# EAGLE library part XC7A100T-1FGG484C (library XC7A100T-1FGG484C)
FPGA Artix-7 Family 101440 Cells 28nm Technology 1V 484-Pin BGA Check availability <https://pricing.snapeda.com/parts/XC7A100T-1FGG484C/Xilinx%20Inc./view-part?ref=eda>
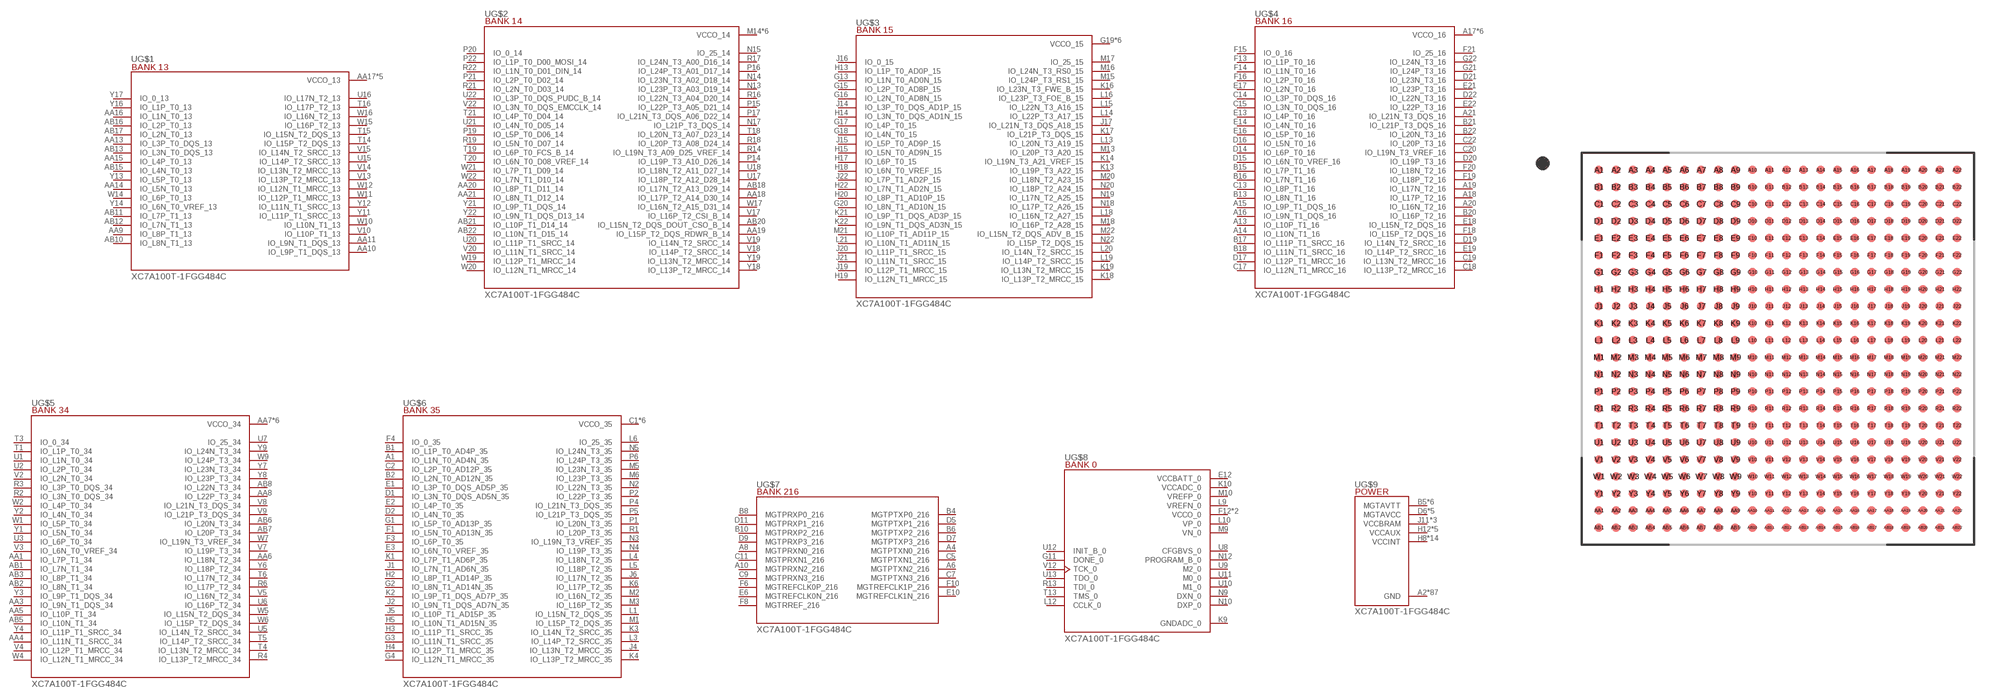
[diagram p0: symbol with the pads of BGA484C100P22X22_2300X2300X260N; footprint BGA484C100P22X22_2300X2300X260N]

Designator prefix U; gates G$1=XC7A100T-1FGG484C_SECTION1 G$2=XC7A100T-1FGG484C_SECTION2 G$3=XC7A100T-1FGG484C_SECTION3 G$4=XC7A100T-1FGG484C_SECTION4 G$5=XC7A100T-1FGG484C_SECTION5 G$6=XC7A100T-1FGG484C_SECTION6 G$7=XC7A100T-1FGG484C_SECTION7 G$8=XC7A100T-1FGG484C_SECTION8 G$9=XC7A100T-1FGG484C_SECTION9

## XC7A100T-1FGG484C (Availability: In Stock; Check_prices: https://www.snapeda.com/parts/XC7A100T-1FGG484C/Xilinx+Inc./view-part/?ref=eda; Description: Artix-7 Field Programmable Gate Array (FPGA) IC 285 4976640 101440 484-BBGA; MF: Xilinx Inc.; MP: XC7A100T-1FGG484C; Package: FBGA-484 Xilinx; Price: None; SnapEDA_Link: https://www.snapeda.com/parts/XC7A100T-1FGG484C/Xilinx+Inc./view-part/?ref=snap)  [BGA484C100P22X22_2300X2300X260N]
A1  G$6:IO_L1N_T0_AD4N_35
A2  G$9:GND  pwr
A3  G$9:GND  pwr
A4  G$7:MGTPTXN0_216
A5  G$9:GND  pwr
A6  G$7:MGTPTXN2_216
A7  G$9:GND  pwr
A8  G$7:MGTPRXN0_216
A9  G$9:GND  pwr
A10  G$7:MGTPRXN2_216
A11  G$9:GND  pwr
A12  G$9:GND  pwr
A13  G$4:IO_L10P_T1_16
A14  G$4:IO_L10N_T1_16
A15  G$4:IO_L9P_T1_DQS_16
A16  G$4:IO_L9N_T1_DQS_16
A17  G$4:VCCO_16  pwr
A18  G$4:IO_L17P_T2_16
A19  G$4:IO_L17N_T2_16
A20  G$4:IO_L16N_T2_16
A21  G$4:IO_L21N_T3_DQS_16
A22  G$9:GND  pwr
AA1  G$5:IO_L7P_T1_34
AA2  G$9:GND  pwr
AA3  G$5:IO_L9N_T1_DQS_34
AA4  G$5:IO_L11N_T1_SRCC_34
AA5  G$5:IO_L10P_T1_34
AA6  G$5:IO_L18N_T2_34
AA7  G$5:VCCO_34  pwr
AA8  G$5:IO_L22P_T3_34
AA9  G$1:IO_L8P_T1_13
AA10  G$1:IO_L9P_T1_DQS_13
AA11  G$1:IO_L9N_T1_DQS_13
AA12  G$9:GND  pwr
AA13  G$1:IO_L3P_T0_DQS_13
AA14  G$1:IO_L5N_T0_13
AA15  G$1:IO_L4P_T0_13
AA16  G$1:IO_L1N_T0_13
AA17  G$1:VCCO_13  pwr
AA18  G$2:IO_L17P_T2_A14_D30_14
AA19  G$2:IO_L15P_T2_DQS_RDWR_B_14
AA20  G$2:IO_L8P_T1_D11_14
AA21  G$2:IO_L8N_T1_D12_14
AA22  G$9:GND  pwr
AB1  G$5:IO_L7N_T1_34
AB2  G$5:IO_L8N_T1_34
AB3  G$5:IO_L8P_T1_34
AB4  G$5:VCCO_34  pwr
AB5  G$5:IO_L10N_T1_34
AB6  G$5:IO_L20N_T3_34
AB7  G$5:IO_L20P_T3_34
AB8  G$5:IO_L22N_T3_34
AB9  G$9:GND  pwr
AB10  G$1:IO_L8N_T1_13
AB11  G$1:IO_L7P_T1_13
AB12  G$1:IO_L7N_T1_13
AB13  G$1:IO_L3N_T0_DQS_13
AB14  G$1:VCCO_13  pwr
AB15  G$1:IO_L4N_T0_13
AB16  G$1:IO_L2P_T0_13
AB17  G$1:IO_L2N_T0_13
AB18  G$2:IO_L17N_T2_A13_D29_14
AB19  G$9:GND  pwr
AB20  G$2:IO_L15N_T2_DQS_DOUT_CSO_B_14
AB21  G$2:IO_L10P_T1_D14_14
AB22  G$2:IO_L10N_T1_D15_14
B1  G$6:IO_L1P_T0_AD4P_35
B2  G$6:IO_L2N_T0_AD12N_35
B3  G$9:GND  pwr
B4  G$7:MGTPTXP0_216
B5  G$9:MGTAVTT  pwr
B6  G$7:MGTPTXP2_216
B7  G$9:MGTAVTT  pwr
B8  G$7:MGTPRXP0_216
B9  G$9:MGTAVTT  pwr
B10  G$7:MGTPRXP2_216
B11  G$9:MGTAVTT  pwr
B12  G$9:GND  pwr
B13  G$4:IO_L8N_T1_16
B14  G$4:VCCO_16  pwr
B15  G$4:IO_L7P_T1_16
B16  G$4:IO_L7N_T1_16
B17  G$4:IO_L11P_T1_SRCC_16
B18  G$4:IO_L11N_T1_SRCC_16
B19  G$9:GND  pwr
B20  G$4:IO_L16P_T2_16
B21  G$4:IO_L21P_T3_DQS_16
B22  G$4:IO_L20N_T3_16
C1  G$6:VCCO_35
C2  G$6:IO_L2P_T0_AD12P_35
C3  G$9:GND  pwr
C4  G$9:MGTAVTT  pwr
C5  G$7:MGTPTXN1_216
C6  G$9:GND  pwr
C7  G$7:MGTPTXN3_216
C8  G$9:MGTAVTT  pwr
C9  G$7:MGTPRXN3_216
C10  G$9:GND  pwr
C11  G$7:MGTPRXN1_216
C12  G$9:GND  pwr
C13  G$4:IO_L8P_T1_16
C14  G$4:IO_L3P_T0_DQS_16
C15  G$4:IO_L3N_T0_DQS_16
C16  G$9:GND  pwr
C17  G$4:IO_L12N_T1_MRCC_16
C18  G$4:IO_L13P_T2_MRCC_16
C19  G$4:IO_L13N_T2_MRCC_16
C20  G$4:IO_L19N_T3_VREF_16
C21  G$4:VCCO_16  pwr
C22  G$4:IO_L20P_T3_16
D1  G$6:IO_L3N_T0_DQS_AD5N_35
D2  G$6:IO_L4N_T0_35
D3  G$9:GND  pwr
D4  G$9:GND  pwr
D5  G$7:MGTPTXP1_216
D6  G$9:MGTAVCC  pwr
D7  G$7:MGTPTXP3_216
D8  G$9:GND  pwr
D9  G$7:MGTPRXP3_216
D10  G$9:MGTAVCC  pwr
D11  G$7:MGTPRXP1_216
D12  G$9:GND  pwr
D13  G$9:GND  pwr
D14  G$4:IO_L6P_T0_16
D15  G$4:IO_L6N_T0_VREF_16
D16  G$4:IO_L5N_T0_16
D17  G$4:IO_L12P_T1_MRCC_16
D18  G$4:VCCO_16  pwr
D19  G$4:IO_L14N_T2_SRCC_16
D20  G$4:IO_L19P_T3_16
D21  G$4:IO_L23N_T3_16
D22  G$4:IO_L22N_T3_16
E1  G$6:IO_L3P_T0_DQS_AD5P_35
E2  G$6:IO_L4P_T0_35
E3  G$6:IO_L6N_T0_VREF_35
E4  G$9:GND  pwr
E5  G$9:GND  pwr
E6  G$7:MGTREFCLK0N_216
E7  G$9:GND  pwr
E8  G$9:MGTAVCC  pwr
E9  G$9:GND  pwr
E10  G$7:MGTREFCLK1N_216
E11  G$9:GND  pwr
E12  G$8:VCCBATT_0  pwr
E13  G$4:IO_L4P_T0_16
E14  G$4:IO_L4N_T0_16
E15  G$4:VCCO_16  pwr
E16  G$4:IO_L5P_T0_16
E17  G$4:IO_L2N_T0_16
E18  G$4:IO_L15N_T2_DQS_16
E19  G$4:IO_L14P_T2_SRCC_16
E20  G$9:GND  pwr
E21  G$4:IO_L23P_T3_16
E22  G$4:IO_L22P_T3_16
F1  G$6:IO_L5N_T0_AD13N_35
F2  G$6:VCCO_35
F3  G$6:IO_L6P_T0_35
F4  G$6:IO_0_35
F5  G$9:GND  pwr
F6  G$7:MGTREFCLK0P_216
F7  G$9:MGTAVCC  pwr
F8  G$7:MGTRREF_216
F9  G$9:MGTAVCC  pwr
F10  G$7:MGTREFCLK1P_216
F11  G$9:GND  pwr
F12  G$8:VCCO_0  pwr
F13  G$4:IO_L1P_T0_16
F14  G$4:IO_L1N_T0_16
F15  G$4:IO_0_16
F16  G$4:IO_L2P_T0_16
F17  G$9:GND  pwr
F18  G$4:IO_L15P_T2_DQS_16
F19  G$4:IO_L18P_T2_16
F20  G$4:IO_L18N_T2_16
F21  G$4:IO_25_16
F22  G$4:VCCO_16  pwr
G1  G$6:IO_L5P_T0_AD13P_35
G2  G$6:IO_L8N_T1_AD14N_35
G3  G$6:IO_L11N_T1_SRCC_35
G4  G$6:IO_L12N_T1_MRCC_35
G5  G$9:GND  pwr
G6  G$9:GND  pwr
G7  G$9:GND  pwr
G8  G$9:GND  pwr
G9  G$9:GND  pwr
G10  G$9:GND  pwr
G11  G$8:DONE_0
G12  G$9:GND  pwr
G13  G$3:IO_L1N_T0_AD0N_15
G14  G$9:GND  pwr
G15  G$3:IO_L2P_T0_AD8P_15
G16  G$3:IO_L2N_T0_AD8N_15
G17  G$3:IO_L4P_T0_15
G18  G$3:IO_L4N_T0_15
G19  G$3:VCCO_15  pwr
G20  G$3:IO_L8N_T1_AD10N_15
G21  G$4:IO_L24P_T3_16
G22  G$4:IO_L24N_T3_16
H1  G$9:GND  pwr
H2  G$6:IO_L8P_T1_AD14P_35
H3  G$6:IO_L11P_T1_SRCC_35
H4  G$6:IO_L12P_T1_MRCC_35
H5  G$6:IO_L10N_T1_AD15N_35
H6  G$6:VCCO_35
H7  G$9:GND  pwr
H8  G$9:VCCINT  pwr
H9  G$9:GND  pwr
H10  G$9:VCCINT  pwr
H11  G$9:GND  pwr
H12  G$9:VCCAUX  pwr
H13  G$3:IO_L1P_T0_AD0P_15
H14  G$3:IO_L3N_T0_DQS_AD1N_15
H15  G$3:IO_L5N_T0_AD9N_15
H16  G$3:VCCO_15  pwr
H17  G$3:IO_L6P_T0_15
H18  G$3:IO_L6N_T0_VREF_15
H19  G$3:IO_L12N_T1_MRCC_15
H20  G$3:IO_L8P_T1_AD10P_15
H21  G$9:GND  pwr
H22  G$3:IO_L7N_T1_AD2N_15
J1  G$6:IO_L7N_T1_AD6N_35
J2  G$6:IO_L9N_T1_DQS_AD7N_35
J3  G$6:VCCO_35
J4  G$6:IO_L13N_T2_MRCC_35
J5  G$6:IO_L10P_T1_AD15P_35
J6  G$6:IO_L17N_T2_35
J7  G$9:VCCINT  pwr
J8  G$9:GND  pwr
J9  G$9:VCCINT  pwr
J10  G$9:GND  pwr
J11  G$9:VCCBRAM  pwr
J12  G$9:GND  pwr
J13  G$3:VCCO_15  pwr
J14  G$3:IO_L3P_T0_DQS_AD1P_15
J15  G$3:IO_L5P_T0_AD9P_15
J16  G$3:IO_0_15
J17  G$3:IO_L21N_T3_DQS_A18_15
J18  G$9:GND  pwr
J19  G$3:IO_L12P_T1_MRCC_15
J20  G$3:IO_L11P_T1_SRCC_15
J21  G$3:IO_L11N_T1_SRCC_15
J22  G$3:IO_L7P_T1_AD2P_15
K1  G$6:IO_L7P_T1_AD6P_35
K2  G$6:IO_L9P_T1_DQS_AD7P_35
K3  G$6:IO_L14N_T2_SRCC_35
K4  G$6:IO_L13P_T2_MRCC_35
K5  G$9:GND  pwr
K6  G$6:IO_L17P_T2_35
K7  G$9:GND  pwr
K8  G$9:VCCINT  pwr
K9  G$8:GNDADC_0  pwr
K10  G$8:VCCADC_0  pwr
K11  G$9:GND  pwr
K12  G$9:VCCAUX  pwr
K13  G$3:IO_L19P_T3_A22_15
K14  G$3:IO_L19N_T3_A21_VREF_15
K15  G$9:GND  pwr
K16  G$3:IO_L23N_T3_FWE_B_15
K17  G$3:IO_L21P_T3_DQS_15
K18  G$3:IO_L13P_T2_MRCC_15
K19  G$3:IO_L13N_T2_MRCC_15
K20  G$3:VCCO_15  pwr
K21  G$3:IO_L9P_T1_DQS_AD3P_15
K22  G$3:IO_L9N_T1_DQS_AD3N_15
L1  G$6:IO_L15N_T2_DQS_35
L2  G$9:GND  pwr
L3  G$6:IO_L14P_T2_SRCC_35
L4  G$6:IO_L18N_T2_35
L5  G$6:IO_L18P_T2_35
L6  G$6:IO_25_35
L7  G$9:VCCINT  pwr
L8  G$9:GND  pwr
L9  G$8:VREFN_0  pwr
L10  G$8:VP_0  pwr
L11  G$9:VCCBRAM  pwr
L12  G$8:CCLK_0
L13  G$3:IO_L20N_T3_A19_15
L14  G$3:IO_L22P_T3_A17_15
L15  G$3:IO_L22N_T3_A16_15
L16  G$3:IO_L23P_T3_FOE_B_15
L17  G$3:VCCO_15  pwr
L18  G$3:IO_L16N_T2_A27_15
L19  G$3:IO_L14P_T2_SRCC_15
L20  G$3:IO_L14N_T2_SRCC_15
L21  G$3:IO_L10N_T1_AD11N_15
L22  G$9:GND  pwr
M1  G$6:IO_L15P_T2_DQS_35
M2  G$6:IO_L16N_T2_35
M3  G$6:IO_L16P_T2_35
M4  G$6:VCCO_35
M5  G$6:IO_L23N_T3_35
M6  G$6:IO_L23P_T3_35
M7  G$9:GND  pwr
M8  G$9:VCCINT  pwr
M9  G$8:VN_0  pwr
M10  G$8:VREFP_0  pwr
M11  G$9:GND  pwr
M12  G$9:VCCAUX  pwr
M13  G$3:IO_L20P_T3_A20_15
M14  G$2:VCCO_14  pwr
M15  G$3:IO_L24P_T3_RS1_15
M16  G$3:IO_L24N_T3_RS0_15
M17  G$3:IO_25_15
M18  G$3:IO_L16P_T2_A28_15
M19  G$9:GND  pwr
M20  G$3:IO_L18N_T2_A23_15
M21  G$3:IO_L10P_T1_AD11P_15
M22  G$3:IO_L15N_T2_DQS_ADV_B_15
N1  G$6:VCCO_35
N2  G$6:IO_L22N_T3_35
N3  G$6:IO_L19N_T3_VREF_35
N4  G$6:IO_L19P_T3_35
N5  G$6:IO_L24N_T3_35
N6  G$9:GND  pwr
N7  G$9:VCCINT  pwr
N8  G$9:GND  pwr
N9  G$8:DXN_0
N10  G$8:DXP_0
N11  G$9:VCCBRAM  pwr
N12  G$8:PROGRAM_B_0
N13  G$2:IO_L23P_T3_A03_D19_14
N14  G$2:IO_L23N_T3_A02_D18_14
N15  G$2:IO_25_14
N16  G$9:GND  pwr
N17  G$2:IO_L21P_T3_DQS_14
N18  G$3:IO_L17P_T2_A26_15
N19  G$3:IO_L17N_T2_A25_15
N20  G$3:IO_L18P_T2_A24_15
N21  G$3:VCCO_15  pwr
N22  G$3:IO_L15P_T2_DQS_15
P1  G$6:IO_L20N_T3_35
P2  G$6:IO_L22P_T3_35
P3  G$9:GND  pwr
P4  G$6:IO_L21N_T3_DQS_35
P5  G$6:IO_L21P_T3_DQS_35
P6  G$6:IO_L24P_T3_35
P7  G$9:GND  pwr
P8  G$9:VCCINT  pwr
P9  G$9:GND  pwr
P10  G$9:VCCINT  pwr
P11  G$9:GND  pwr
P12  G$9:VCCAUX  pwr
P13  G$9:GND  pwr
P14  G$2:IO_L19P_T3_A10_D26_14
P15  G$2:IO_L22P_T3_A05_D21_14
P16  G$2:IO_L24P_T3_A01_D17_14
P17  G$2:IO_L21N_T3_DQS_A06_D22_14
P18  G$2:VCCO_14  pwr
P19  G$2:IO_L5P_T0_D06_14
P20  G$2:IO_0_14
P21  G$2:IO_L2P_T0_D02_14
P22  G$2:IO_L1P_T0_D00_MOSI_14
R1  G$6:IO_L20P_T3_35
R2  G$5:IO_L3N_T0_DQS_34
R3  G$5:IO_L3P_T0_DQS_34
R4  G$5:IO_L13P_T2_MRCC_34
R5  G$5:VCCO_34  pwr
R6  G$5:IO_L17P_T2_34
R7  G$9:VCCINT  pwr
R8  G$9:GND  pwr
R9  G$9:VCCINT  pwr
R10  G$9:GND  pwr
R11  G$9:VCCAUX  pwr
R12  G$9:GND  pwr
R13  G$8:TDI_0  in
R14  G$2:IO_L19N_T3_A09_D25_VREF_14
R15  G$2:VCCO_14  pwr
R16  G$2:IO_L22N_T3_A04_D20_14
R17  G$2:IO_L24N_T3_A00_D16_14
R18  G$2:IO_L20P_T3_A08_D24_14
R19  G$2:IO_L5N_T0_D07_14
R20  G$9:GND  pwr
R21  G$2:IO_L2N_T0_D03_14
R22  G$2:IO_L1N_T0_D01_DIN_14
T1  G$5:IO_L1P_T0_34
T2  G$5:VCCO_34  pwr
T3  G$5:IO_0_34
T4  G$5:IO_L13N_T2_MRCC_34
T5  G$5:IO_L14P_T2_SRCC_34
T6  G$5:IO_L17N_T2_34
T7  G$9:GND  pwr
T8  G$9:VCCINT  pwr
T9  G$9:GND  pwr
T10  G$9:VCCINT  pwr
T11  G$9:GND  pwr
T12  G$8:VCCO_0  pwr
T13  G$8:TMS_0  in
T14  G$1:IO_L15P_T2_DQS_13
T15  G$1:IO_L15N_T2_DQS_13
T16  G$1:IO_L17P_T2_13
T17  G$9:GND  pwr
T18  G$2:IO_L20N_T3_A07_D23_14
T19  G$2:IO_L6P_T0_FCS_B_14
T20  G$2:IO_L6N_T0_D08_VREF_14
T21  G$2:IO_L4P_T0_D04_14
T22  G$2:VCCO_14  pwr
U1  G$5:IO_L1N_T0_34
U2  G$5:IO_L2P_T0_34
U3  G$5:IO_L6P_T0_34
U4  G$9:GND  pwr
U5  G$5:IO_L14N_T2_SRCC_34
U6  G$5:IO_L16P_T2_34
U7  G$5:IO_25_34
U8  G$8:CFGBVS_0
U9  G$8:M2_0
U10  G$8:M1_0
U11  G$8:M0_0
U12  G$8:INIT_B_0  in
U13  G$8:TDO_0  out
U14  G$9:GND  pwr
U15  G$1:IO_L14P_T2_SRCC_13
U16  G$1:IO_L17N_T2_13
U17  G$2:IO_L18P_T2_A12_D28_14
U18  G$2:IO_L18N_T2_A11_D27_14
U19  G$2:VCCO_14  pwr
U20  G$2:IO_L11P_T1_SRCC_14
U21  G$2:IO_L4N_T0_D05_14
U22  G$2:IO_L3P_T0_DQS_PUDC_B_14
V1  G$9:GND  pwr
V2  G$5:IO_L2N_T0_34
V3  G$5:IO_L6N_T0_VREF_34
V4  G$5:IO_L12P_T1_MRCC_34
V5  G$5:IO_L16N_T2_34
V6  G$5:VCCO_34  pwr
V7  G$5:IO_L19P_T3_34
V8  G$5:IO_L21N_T3_DQS_34
V9  G$5:IO_L21P_T3_DQS_34
V10  G$1:IO_L10P_T1_13
V11  G$9:GND  pwr
V12  G$8:TCK_0  in
V13  G$1:IO_L13P_T2_MRCC_13
V14  G$1:IO_L13N_T2_MRCC_13
V15  G$1:IO_L14N_T2_SRCC_13
V16  G$1:VCCO_13  pwr
V17  G$2:IO_L16P_T2_CSI_B_14
V18  G$2:IO_L14P_T2_SRCC_14
V19  G$2:IO_L14N_T2_SRCC_14
V20  G$2:IO_L11N_T1_SRCC_14
V21  G$9:GND  pwr
V22  G$2:IO_L3N_T0_DQS_EMCCLK_14
W1  G$5:IO_L5P_T0_34
W2  G$5:IO_L4P_T0_34
W3  G$5:VCCO_34  pwr
W4  G$5:IO_L12N_T1_MRCC_34
W5  G$5:IO_L15N_T2_DQS_34
W6  G$5:IO_L15P_T2_DQS_34
W7  G$5:IO_L19N_T3_VREF_34
W8  G$9:GND  pwr
W9  G$5:IO_L24P_T3_34
W10  G$1:IO_L10N_T1_13
W11  G$1:IO_L12P_T1_MRCC_13
W12  G$1:IO_L12N_T1_MRCC_13
W13  G$1:VCCO_13  pwr
W14  G$1:IO_L6P_T0_13
W15  G$1:IO_L16P_T2_13
W16  G$1:IO_L16N_T2_13
W17  G$2:IO_L16N_T2_A15_D31_14
W18  G$9:GND  pwr
W19  G$2:IO_L12P_T1_MRCC_14
W20  G$2:IO_L12N_T1_MRCC_14
W21  G$2:IO_L7P_T1_D09_14
W22  G$2:IO_L7N_T1_D10_14
Y1  G$5:IO_L5N_T0_34
Y2  G$5:IO_L4N_T0_34
Y3  G$5:IO_L9P_T1_DQS_34
Y4  G$5:IO_L11P_T1_SRCC_34
Y5  G$9:GND  pwr
Y6  G$5:IO_L18P_T2_34
Y7  G$5:IO_L23N_T3_34
Y8  G$5:IO_L23P_T3_34
Y9  G$5:IO_L24N_T3_34
Y10  G$1:VCCO_13  pwr
Y11  G$1:IO_L11P_T1_SRCC_13
Y12  G$1:IO_L11N_T1_SRCC_13
Y13  G$1:IO_L5P_T0_13
Y14  G$1:IO_L6N_T0_VREF_13
Y15  G$9:GND  pwr
Y16  G$1:IO_L1P_T0_13
Y17  G$1:IO_0_13
Y18  G$2:IO_L13P_T2_MRCC_14
Y19  G$2:IO_L13N_T2_MRCC_14
Y20  G$2:VCCO_14  pwr
Y21  G$2:IO_L9P_T1_DQS_14
Y22  G$2:IO_L9N_T1_DQS_D13_14

## Footprint BGA484C100P22X22_2300X2300X260N (pad centres in mm)
smd 0.5 x 0.5: A1 -10.5,10.5; A2 -9.5,10.5; A3 -8.5,10.5; A4 -7.5,10.5; A5 -6.5,10.5; A6 -5.5,10.5; A7 -4.5,10.5; A8 -3.5,10.5; A9 -2.5,10.5; A10 -1.5,10.5; A11 -0.5,10.5; A12 0.5,10.5; A13 1.5,10.5; A14 2.5,10.5; A15 3.5,10.5; A16 4.5,10.5; A17 5.5,10.5; A18 6.5,10.5; A19 7.5,10.5; A20 8.5,10.5; A21 9.5,10.5; A22 10.5,10.5; AA1 -10.5,-9.5; AA2 -9.5,-9.5; AA3 -8.5,-9.5; AA4 -7.5,-9.5; AA5 -6.5,-9.5; AA6 -5.5,-9.5; AA7 -4.5,-9.5; AA8 -3.5,-9.5; AA9 -2.5,-9.5; AA10 -1.5,-9.5; AA11 -0.5,-9.5; AA12 0.5,-9.5; AA13 1.5,-9.5; AA14 2.5,-9.5; AA15 3.5,-9.5; AA16 4.5,-9.5; AA17 5.5,-9.5; AA18 6.5,-9.5; AA19 7.5,-9.5; AA20 8.5,-9.5; AA21 9.5,-9.5; AA22 10.5,-9.5; AB1 -10.5,-10.5; AB2 -9.5,-10.5; AB3 -8.5,-10.5; AB4 -7.5,-10.5; AB5 -6.5,-10.5; AB6 -5.5,-10.5; AB7 -4.5,-10.5; AB8 -3.5,-10.5; AB9 -2.5,-10.5; AB10 -1.5,-10.5; AB11 -0.5,-10.5; AB12 0.5,-10.5; AB13 1.5,-10.5; AB14 2.5,-10.5; AB15 3.5,-10.5; AB16 4.5,-10.5; AB17 5.5,-10.5; AB18 6.5,-10.5; AB19 7.5,-10.5; AB20 8.5,-10.5; AB21 9.5,-10.5; AB22 10.5,-10.5; B1 -10.5,9.5; B2 -9.5,9.5; B3 -8.5,9.5; B4 -7.5,9.5; B5 -6.5,9.5; B6 -5.5,9.5; B7 -4.5,9.5; B8 -3.5,9.5; B9 -2.5,9.5; B10 -1.5,9.5; B11 -0.5,9.5; B12 0.5,9.5; B13 1.5,9.5; B14 2.5,9.5; B15 3.5,9.5; B16 4.5,9.5; B17 5.5,9.5; B18 6.5,9.5; B19 7.5,9.5; B20 8.5,9.5; B21 9.5,9.5; B22 10.5,9.5; C1 -10.5,8.5; C2 -9.5,8.5; C3 -8.5,8.5; C4 -7.5,8.5; C5 -6.5,8.5; C6 -5.5,8.5; C7 -4.5,8.5; C8 -3.5,8.5; C9 -2.5,8.5; C10 -1.5,8.5; C11 -0.5,8.5; C12 0.5,8.5; C13 1.5,8.5; C14 2.5,8.5; C15 3.5,8.5; C16 4.5,8.5; C17 5.5,8.5; C18 6.5,8.5; C19 7.5,8.5; C20 8.5,8.5; C21 9.5,8.5; C22 10.5,8.5; D1 -10.5,7.5; D2 -9.5,7.5; D3 -8.5,7.5; D4 -7.5,7.5; D5 -6.5,7.5; D6 -5.5,7.5; D7 -4.5,7.5; D8 -3.5,7.5; D9 -2.5,7.5; D10 -1.5,7.5; D11 -0.5,7.5; D12 0.5,7.5; D13 1.5,7.5; D14 2.5,7.5; D15 3.5,7.5; D16 4.5,7.5; D17 5.5,7.5; D18 6.5,7.5; D19 7.5,7.5; D20 8.5,7.5; D21 9.5,7.5; D22 10.5,7.5; E1 -10.5,6.5; E2 -9.5,6.5; E3 -8.5,6.5; E4 -7.5,6.5; E5 -6.5,6.5; E6 -5.5,6.5; E7 -4.5,6.5; E8 -3.5,6.5; E9 -2.5,6.5; E10 -1.5,6.5; E11 -0.5,6.5; E12 0.5,6.5; E13 1.5,6.5; E14 2.5,6.5; E15 3.5,6.5; E16 4.5,6.5; E17 5.5,6.5; E18 6.5,6.5; E19 7.5,6.5; E20 8.5,6.5; E21 9.5,6.5; E22 10.5,6.5; F1 -10.5,5.5; F2 -9.5,5.5; F3 -8.5,5.5; F4 -7.5,5.5; F5 -6.5,5.5; F6 -5.5,5.5; F7 -4.5,5.5; F8 -3.5,5.5; F9 -2.5,5.5; F10 -1.5,5.5; F11 -0.5,5.5; F12 0.5,5.5; F13 1.5,5.5; F14 2.5,5.5; F15 3.5,5.5; F16 4.5,5.5; F17 5.5,5.5; F18 6.5,5.5; F19 7.5,5.5; F20 8.5,5.5; F21 9.5,5.5; F22 10.5,5.5; G1 -10.5,4.5; G2 -9.5,4.5; G3 -8.5,4.5; G4 -7.5,4.5; G5 -6.5,4.5; G6 -5.5,4.5; G7 -4.5,4.5; G8 -3.5,4.5; G9 -2.5,4.5; G10 -1.5,4.5; G11 -0.5,4.5; G12 0.5,4.5; G13 1.5,4.5; G14 2.5,4.5; G15 3.5,4.5; G16 4.5,4.5; G17 5.5,4.5; G18 6.5,4.5; G19 7.5,4.5; G20 8.5,4.5; G21 9.5,4.5; G22 10.5,4.5; H1 -10.5,3.5; H2 -9.5,3.5; H3 -8.5,3.5; H4 -7.5,3.5; H5 -6.5,3.5; H6 -5.5,3.5; H7 -4.5,3.5; H8 -3.5,3.5; H9 -2.5,3.5; H10 -1.5,3.5; H11 -0.5,3.5; H12 0.5,3.5; H13 1.5,3.5; H14 2.5,3.5; H15 3.5,3.5; H16 4.5,3.5; H17 5.5,3.5; H18 6.5,3.5; H19 7.5,3.5; H20 8.5,3.5; H21 9.5,3.5; H22 10.5,3.5; J1 -10.5,2.5; J2 -9.5,2.5; J3 -8.5,2.5; J4 -7.5,2.5; J5 -6.5,2.5; J6 -5.5,2.5; J7 -4.5,2.5; J8 -3.5,2.5; J9 -2.5,2.5; J10 -1.5,2.5; J11 -0.5,2.5; J12 0.5,2.5; J13 1.5,2.5; J14 2.5,2.5; J15 3.5,2.5; J16 4.5,2.5; J17 5.5,2.5; J18 6.5,2.5; J19 7.5,2.5; J20 8.5,2.5; J21 9.5,2.5; J22 10.5,2.5; K1 -10.5,1.5; K2 -9.5,1.5; K3 -8.5,1.5; K4 -7.5,1.5; K5 -6.5,1.5; K6 -5.5,1.5; K7 -4.5,1.5; K8 -3.5,1.5; K9 -2.5,1.5; K10 -1.5,1.5; K11 -0.5,1.5; K12 0.5,1.5; K13 1.5,1.5; K14 2.5,1.5; K15 3.5,1.5; K16 4.5,1.5; K17 5.5,1.5; K18 6.5,1.5; K19 7.5,1.5; K20 8.5,1.5; K21 9.5,1.5; K22 10.5,1.5; L1 -10.5,0.5; L2 -9.5,0.5; L3 -8.5,0.5; L4 -7.5,0.5; L5 -6.5,0.5; L6 -5.5,0.5; L7 -4.5,0.5; L8 -3.5,0.5; L9 -2.5,0.5; L10 -1.5,0.5; L11 -0.5,0.5; L12 0.5,0.5; L13 1.5,0.5; L14 2.5,0.5; L15 3.5,0.5; L16 4.5,0.5; L17 5.5,0.5; L18 6.5,0.5; L19 7.5,0.5; L20 8.5,0.5; L21 9.5,0.5; L22 10.5,0.5; M1 -10.5,-0.5; M2 -9.5,-0.5; M3 -8.5,-0.5; M4 -7.5,-0.5; M5 -6.5,-0.5; M6 -5.5,-0.5; M7 -4.5,-0.5; M8 -3.5,-0.5; M9 -2.5,-0.5; M10 -1.5,-0.5; M11 -0.5,-0.5; M12 0.5,-0.5; M13 1.5,-0.5; M14 2.5,-0.5; M15 3.5,-0.5; M16 4.5,-0.5; M17 5.5,-0.5; M18 6.5,-0.5; M19 7.5,-0.5; M20 8.5,-0.5; M21 9.5,-0.5; M22 10.5,-0.5; N1 -10.5,-1.5; N2 -9.5,-1.5; N3 -8.5,-1.5; N4 -7.5,-1.5; N5 -6.5,-1.5; N6 -5.5,-1.5; N7 -4.5,-1.5; N8 -3.5,-1.5; N9 -2.5,-1.5; N10 -1.5,-1.5; N11 -0.5,-1.5; N12 0.5,-1.5; N13 1.5,-1.5; N14 2.5,-1.5; N15 3.5,-1.5; N16 4.5,-1.5; N17 5.5,-1.5; N18 6.5,-1.5; N19 7.5,-1.5; N20 8.5,-1.5; N21 9.5,-1.5; N22 10.5,-1.5; P1 -10.5,-2.5; P2 -9.5,-2.5; P3 -8.5,-2.5; P4 -7.5,-2.5; P5 -6.5,-2.5; P6 -5.5,-2.5; P7 -4.5,-2.5; P8 -3.5,-2.5; P9 -2.5,-2.5; P10 -1.5,-2.5; P11 -0.5,-2.5; P12 0.5,-2.5; P13 1.5,-2.5; P14 2.5,-2.5; P15 3.5,-2.5; P16 4.5,-2.5; P17 5.5,-2.5; P18 6.5,-2.5; P19 7.5,-2.5; P20 8.5,-2.5; P21 9.5,-2.5; P22 10.5,-2.5; R1 -10.5,-3.5; R2 -9.5,-3.5; R3 -8.5,-3.5; R4 -7.5,-3.5; R5 -6.5,-3.5; R6 -5.5,-3.5; R7 -4.5,-3.5; R8 -3.5,-3.5; R9 -2.5,-3.5; R10 -1.5,-3.5; R11 -0.5,-3.5; R12 0.5,-3.5; R13 1.5,-3.5; R14 2.5,-3.5; R15 3.5,-3.5; R16 4.5,-3.5; R17 5.5,-3.5; R18 6.5,-3.5; R19 7.5,-3.5; R20 8.5,-3.5; R21 9.5,-3.5; R22 10.5,-3.5; T1 -10.5,-4.5; T2 -9.5,-4.5; T3 -8.5,-4.5; T4 -7.5,-4.5; T5 -6.5,-4.5; T6 -5.5,-4.5; T7 -4.5,-4.5; T8 -3.5,-4.5; T9 -2.5,-4.5; T10 -1.5,-4.5; T11 -0.5,-4.5; T12 0.5,-4.5; T13 1.5,-4.5; T14 2.5,-4.5; T15 3.5,-4.5; T16 4.5,-4.5; T17 5.5,-4.5; T18 6.5,-4.5; T19 7.5,-4.5; T20 8.5,-4.5; T21 9.5,-4.5; T22 10.5,-4.5; U1 -10.5,-5.5; U2 -9.5,-5.5; U3 -8.5,-5.5; U4 -7.5,-5.5; U5 -6.5,-5.5; U6 -5.5,-5.5; U7 -4.5,-5.5; U8 -3.5,-5.5; U9 -2.5,-5.5; U10 -1.5,-5.5; U11 -0.5,-5.5; U12 0.5,-5.5; U13 1.5,-5.5; U14 2.5,-5.5; U15 3.5,-5.5; U16 4.5,-5.5; U17 5.5,-5.5; U18 6.5,-5.5; U19 7.5,-5.5; U20 8.5,-5.5; U21 9.5,-5.5; U22 10.5,-5.5; V1 -10.5,-6.5; V2 -9.5,-6.5; V3 -8.5,-6.5; V4 -7.5,-6.5; V5 -6.5,-6.5; V6 -5.5,-6.5; V7 -4.5,-6.5; V8 -3.5,-6.5; V9 -2.5,-6.5; V10 -1.5,-6.5; V11 -0.5,-6.5; V12 0.5,-6.5; V13 1.5,-6.5; V14 2.5,-6.5; V15 3.5,-6.5; V16 4.5,-6.5; V17 5.5,-6.5; V18 6.5,-6.5; V19 7.5,-6.5; V20 8.5,-6.5; V21 9.5,-6.5; V22 10.5,-6.5; W1 -10.5,-7.5; W2 -9.5,-7.5; W3 -8.5,-7.5; W4 -7.5,-7.5; W5 -6.5,-7.5; W6 -5.5,-7.5; W7 -4.5,-7.5; W8 -3.5,-7.5; W9 -2.5,-7.5; W10 -1.5,-7.5; W11 -0.5,-7.5; W12 0.5,-7.5; W13 1.5,-7.5; W14 2.5,-7.5; W15 3.5,-7.5; W16 4.5,-7.5; W17 5.5,-7.5; W18 6.5,-7.5; W19 7.5,-7.5; W20 8.5,-7.5; W21 9.5,-7.5; W22 10.5,-7.5; Y1 -10.5,-8.5; Y2 -9.5,-8.5; Y3 -8.5,-8.5; Y4 -7.5,-8.5; Y5 -6.5,-8.5; Y6 -5.5,-8.5; Y7 -4.5,-8.5; Y8 -3.5,-8.5; Y9 -2.5,-8.5; Y10 -1.5,-8.5; Y11 -0.5,-8.5; Y12 0.5,-8.5; Y13 1.5,-8.5; Y14 2.5,-8.5; Y15 3.5,-8.5; Y16 4.5,-8.5; Y17 5.5,-8.5; Y18 6.5,-8.5; Y19 7.5,-8.5; Y20 8.5,-8.5; Y21 9.5,-8.5; Y22 10.5,-8.5